# Altium schematic symbol library mcu_prog_and_debug_connectors.SchLib: 15 symbols
Pins are listed as number, name and electrical type; pins without a type are passive.

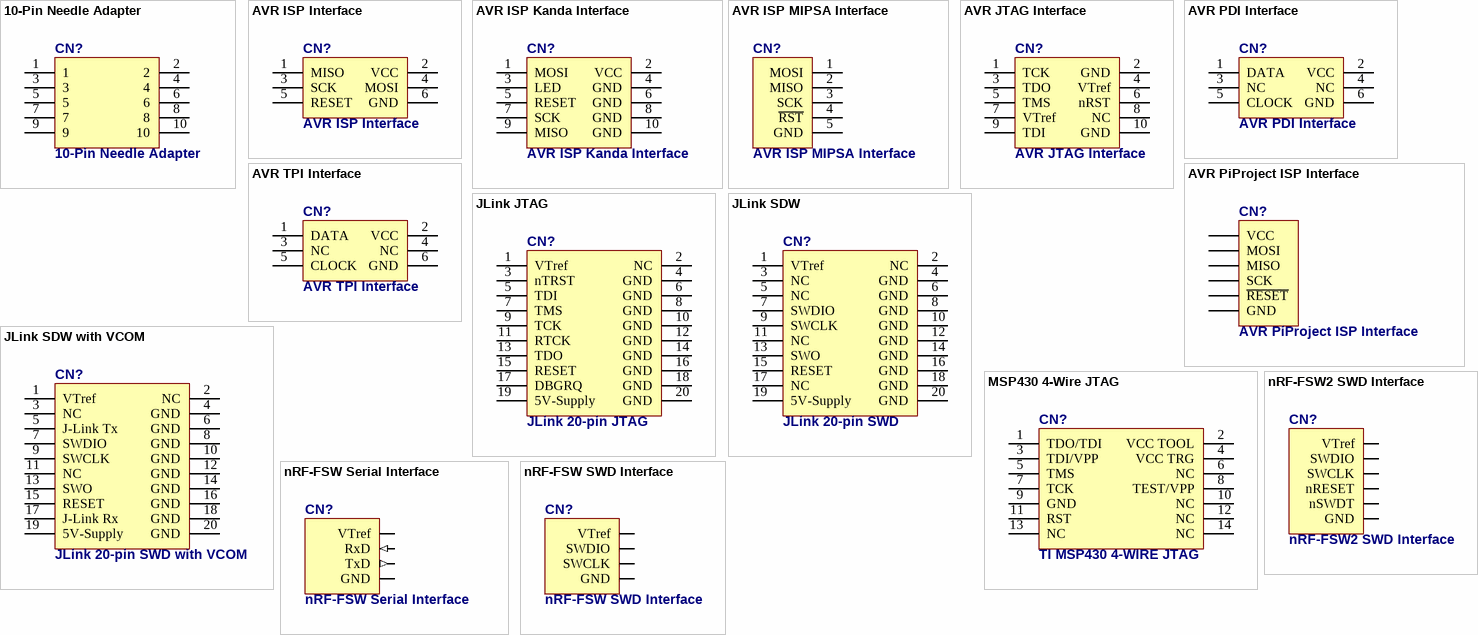
[diagram p0: symbols 10-Pin Needle Adapter to nRF-FSW SWD Interface]

## 10-Pin Needle Adapter
designator CN?
JTAG Header for AVR MCU's
footprint 10-Pin Needle Adapter
pins: 1, 2, 3, 4, 5, 6, 7, 8, 9, 10

## AVR ISP Interface
designator CN?
ISP Programming Header for AVR MCU's
footprint IDC6 (2x3pin 2,54mm)
footprint GP_3x2
footprint IDC6_RA (2.54mm, 6 Pin IDC Male Connector)
footprint GP_3x2H
footprint GP_3x2H_F
footprint GP_3x2_F
footprint IDC6_SMD (2.54mm, 6 Pin IDC Male Connector, SMD)
pins: 1 MISO, 2 VCC, 3 SCK, 4 MOSI, 5 RESET, 6 GND

## AVR ISP Kanda Interface
designator CN?
Kanda ISP Programming Header for AVR MCU's
footprint IDC10 (2.54mm, 10 Pin IDC Male Connector)
footprint IDC10_RA_1 (2.54mm, 10 Pin IDC Male Connector, Right Angle)
footprint IDC10_SMD (2.54mm, 10 Pin IDC Male Connector, SMD)
footprint GP_5x2
footprint GP_5x2H
footprint GP_5x2_F
footprint GP_5x2H_F
footprint IDC10_RA_2 (2.54mm, 10 Pin IDC Male Connector, Right Angle)
pins: 1 MOSI, 2 VCC, 3 LED, 4 GND, 5 RESET, 6 GND, 7 SCK, 8 GND, 9 MISO, 10 GND

## AVR ISP MIPSA Interface
designator CN?
MIPSA ISP Programming Header for AVR MCU's
footprint KK/2.54/5_manual
footprint KK/2.54/5
footprint KK/2.54/5_laying_manual
pins: 1 MOSI "MOSI Line", 2 MISO "MOSI Line", 3 SCK "MOSI Line", 4 ~{RST} "MOSI Line", 5 GND (power) "MOSI Line"

## AVR JTAG Interface
designator CN?
JTAG Header for AVR MCU's
footprint IDC10 (2.54mm, 10 Pin IDC Male Connector)
footprint IDC10_RA_1 (2.54mm, 10 Pin IDC Male Connector, Right Angle)
footprint IDC10_SMD (2.54mm, 10 Pin IDC Male Connector, SMD)
footprint IDC10_RA_2 (2.54mm, 10 Pin IDC Male Connector, Right Angle)
pins: 1 TCK, 2 GND, 3 TDO, 4 VTref, 5 TMS, 6 nRST, 7 VTref, 8 NC, 9 TDI, 10 GND

## AVR PDI Interface
designator CN?
PDI Programming Header for AVR MCU's
footprint IDC6 (2x3pin 2,54mm)
footprint GP_3x2
footprint IDC6_RA (2.54mm, 6 Pin IDC Male Connector)
footprint GP_3x2H
pins: 1 DATA, 2 VCC, 3 NC, 4 NC, 5 CLOCK, 6 GND

## AVR PiProject ISP Interface
designator CN?
PiProject ISP Programming Header for AVR MCU's; Published: 20-Mar-2006; PackageReference: HU06
footprint KK/2.54/6
footprint KK/2.54/6_manual
pins: 1 VCC, 2 MOSI, 3 MISO, 4 SCK, 5 ~{RESET}, 6 GND

## AVR TPI Interface
designator CN?
TPI Programming Header for tinyAVR MCU's
footprint IDC6 (2x3pin 2,54mm)
footprint GP_3x2
footprint IDC6_RA (2.54mm, 6 Pin IDC Male Connector)
footprint GP_3x2H
pins: 1 DATA, 2 VCC, 3 NC, 4 NC, 5 CLOCK, 6 GND

## JLink JTAG
designator CN?, comment JLink 20-pin JTAG
JLink 20-pin JTAG Connector (IDC20)
footprint GP_10x2
footprint GP_10x2H
footprint IDC20 (2.54mm, 20 Pin IDC Male Connector)
footprint IDC20_RA (2.54mm, 20 Pin IDC Male Connector, Right Angle)
pins: 1 VTref, 2 NC, 3 nTRST, 4 GND, 5 TDI, 6 GND, 7 TMS, 8 GND, 9 TCK, 10 GND, 11 RTCK, 12 GND, 13 TDO, 14 GND, 15 RESET, 16 GND, 17 DBGRQ, 18 GND, 19 5V-Supply, 20 GND

## JLink SDW
designator CN?, comment JLink 20-pin SWD
JLink 20-pin SWD Connector (IDC20)
footprint GP_10x2
footprint GP_10x2H
footprint IDC20 (2.54mm, 20 Pin IDC Male Connector)
footprint IDC20_RA (2.54mm, 20 Pin IDC Male Connector, Right Angle)
pins: 1 VTref, 2 NC, 3 NC, 4 GND, 5 NC, 6 GND, 7 SWDIO, 8 GND, 9 SWCLK, 10 GND, 11 NC, 12 GND, 13 SWO, 14 GND, 15 RESET, 16 GND, 17 NC, 18 GND, 19 5V-Supply, 20 GND

## JLink SDW with VCOM
designator CN?, comment JLink 20-pin SWD with VCOM
JLink 20-pin SWD with VCOM Connector (IDC20)
footprint GP_10x2
footprint GP_10x2H
footprint IDC20 (2.54mm, 20 Pin IDC Male Connector)
footprint IDC20_RA (2.54mm, 20 Pin IDC Male Connector, Right Angle)
pins: 1 VTref, 2 NC, 3 NC, 4 GND, 5 J-Link Tx, 6 GND, 7 SWDIO, 8 GND, 9 SWCLK, 10 GND, 11 NC, 12 GND, 13 SWO, 14 GND, 15 RESET, 16 GND, 17 J-Link Rx, 18 GND, 19 5V-Supply, 20 GND

## MSP430 4-Wire JTAG
designator CN?, comment TI MSP430 4-WIRE JTAG
Texas Instruments MSP430 4-Wire JTAG Connector
footprint IDC14 (2.54mm, 14 Pin IDC Male Connector)
footprint IDC14_RA (2.54mm, 14 Pin IDC Male Connector, Right Angle)
pins: 1 TDO/TDI, 2 VCC TOOL, 3 TDI/VPP, 4 VCC TRG, 5 TMS, 6 NC, 7 TCK, 8 TEST/VPP, 9 GND, 10 NC, 11 RST, 12 NC, 13 NC, 14 NC

## nRF-FSW2 SWD Interface
designator CN?
footprint B6B-XH-A
footprint S6B-XH-A-1
pins: 1 VTref, 2 SWDIO, 3 SWCLK, 4 nRESET, 5 nSWDT, 6 GND

## nRF-FSW Serial Interface
designator CN?
footprint B4B-XH-A
footprint S4B-XH-A-1
pins: 1 VTref, 2 RxD (in), 3 TxD (out), 4 GND

## nRF-FSW SWD Interface
designator CN?
footprint B4B-XH-A
footprint S4B-XH-A-1
pins: 1 VTref, 2 SWDIO, 3 SWCLK, 4 GND